# EAGLE library part NMJ6HCD2 (library NMJ6HCD2)
Phone Connectors STEREO CHROME NOSE Source: Datasheet <http://www.neutrik.de/zoolu-website/media/download/2890/Strichzeichnung NMJ6HCD2>
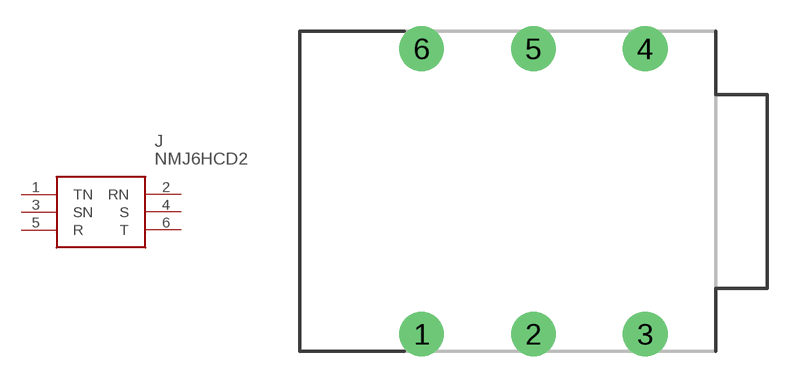
[diagram p0: symbol with the pads of NMJ6HCD2; footprint NMJ6HCD2]

Designator prefix J

## NMJ6HCD2 (DESCRIPTION: Phone Connectors STEREO CHROME NOSE; HEIGHT: mm; MANUFACTURER_NAME: Neutrik; MANUFACTURER_PART_NUMBER: NMJ6HCD2; MOUSER_PART_NUMBER: 550-22302; MOUSER_PRICE-STOCK: https://www.mouser.com/Search/Refine.aspx?Keyword=550-22302)  [NMJ6HCD2]
1  TN
2  RN
3  SN
4  S
5  R
6  T

## Footprint NMJ6HCD2 (pad centres in mm)
NMJ6HCD2
drill 1.5 pad 2.54: 1 -16.7,-8.115; 2 -10.35,-8.115; 3 -4,-8.115; 4 -4,8.115; 5 -10.35,8.115; 6 -16.7,8.115